# EAGLE library part JTAG_HDR (library thin_layer)
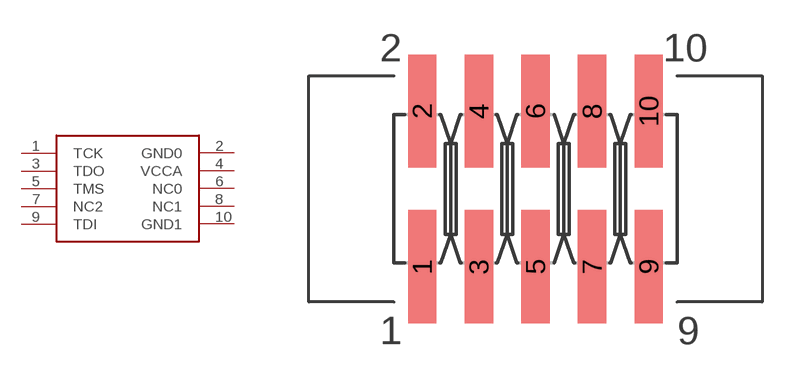
[diagram p0: symbol with the pads of HDR_2X10_SMD; footprint HDR_2X10_SMD]

Designator prefix -

## JTAG_HDR  [HDR_2X10_SMD]
1  TCK  out
2  GND0
3  TDO  in
4  VCCA
5  TMS  out
6  NC0
7  NC2
8  NC1
9  TDI  in
10  GND1

## Footprint HDR_2X10_SMD (pad centres in mm)
smd 1.27 x 5.08: 1 -5.08,-3.494; 2 -5.08,3.494; 3 -2.54,-3.494; 4 -2.54,3.494; 5 0,-3.494; 6 0,3.494; 7 2.54,-3.494; 8 2.54,3.494; 9 5.08,-3.494; 10 5.08,3.494